# Altium footprint library CONN-TH_KF7.62-2P.PcbLib: 1 footprints
Each footprint in its own frame and in the unit in brackets; x right, y up, seen from the top. Pads: shape width x height; smd on the part's side, far side on the other; paste and mask are expansions set on the pad; w line width, h text height; cw(c..) or ccw(c..) is an arc to the next point about the centre after c.
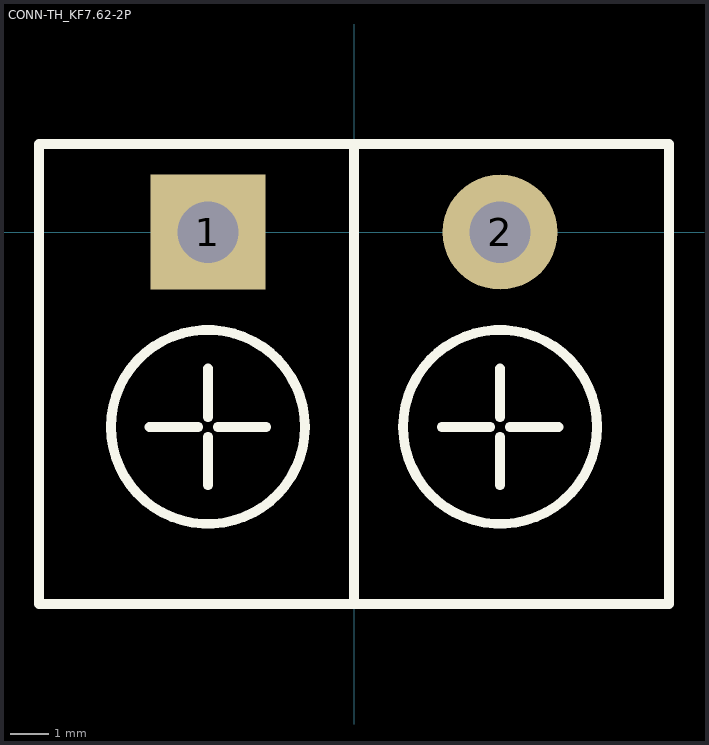
[diagram p0: the footprint, top view; thin cyan lines are the x and y axes]

## CONN-TH_KF7.62-2P [mm]
pads (2):
  rect 3x3 hole 1.6: 1(-3.81,0)
  round 3 hole 1.6: 2(3.81,0)
Top Overlay:
  circle w0.254: c3.81,-5.08 r2.53
  circle w0.254: c-3.81,-5.08 r2.53
  lines w0.254: -5.334,-5.08 -4.064,-5.08 ; -3.81,-6.604 -3.81,-5.334 ; -3.81,-4.826 -3.81,-3.556 ; -3.556,-5.08 -2.286,-5.08 ; 0,-9.7 0,2.159 ; 2.286,-5.08 3.556,-5.08 ; 3.81,-6.604 3.81,-5.334 ; 3.81,-4.826 3.81,-3.556 ; 4.064,-5.08 5.334,-5.08 ; -8.22,-9.7 8.22,-9.7 8.22,2.3 -8.22,2.3 -8.22,-9.7
Mechanical 6:
  region: -8.14,2.22 -8.14,-9.63 -0.03,-9.63 0,-9.6 0,-9.8 -8.2,-9.8 -8.3,-9.7 -8.3,2.35 -8.25,2.4 -8.15,2.4
  region: 8.14,2.22 8.14,-9.63 0.03,-9.63 0,-9.6 0,-9.8 8.2,-9.8 8.3,-9.7 8.3,2.35 8.25,2.4 8.15,2.4
Mechanical 15:
  region: -4.31,0.35 -3.31,0.35 -3.31,-0.35 -4.31,-0.35
  region: 3.31,0.35 4.31,0.35 4.31,-0.35 3.31,-0.35
  region: -8.16,-9.7 -8.16,-9.725 -8.195,-9.76 -8.245,-9.76 -8.28,-9.725 -8.28,-9.7 -8.28,-9.675 -8.245,-9.64 -8.195,-9.64 -8.16,-9.675 -8.16,-9.7
  lines w0.051: -8.22,-9.7 -8.22,2.3 8.22,2.3 8.22,-9.7 -8.22,-9.7